# EAGLE library part 741-110 (library con-wago_741)
Serie 741, Durchführungsklemmenleiste 2 Lötstifte/Pol / Series 741, Feedthrough terminal strip 2 solder pins/pole Polzahl / Pole No.: 10 Rastermaß / Pitch: 5 - 5 mm Bemessungsspannung / Rated Voltage: 320 V Nennstrom / Nominal Current: 16 A Leiterquerschnitt / Conductor Size: 0.08 - 2.5 mm2 Anschlusstechnik / Connection Technology: CAGE CLAMP® Lötstiftlänge: / Solder Pin Length: 4 mm Leitereinführung (zur Platine) / Conductor entry angle (to PCB): 0 ° Farbe / Color: grau / gray Stand: 01.01.2014. Die jeweils aktuellen Daten zu diesem Artikel finden Sie in unserem Produktkatalog, den Sie unter www.wago.com einsehen können. As of: 01/01/2014. Please find the newest data for this article in our product catalogue, which can be viewed under www.wago.com.
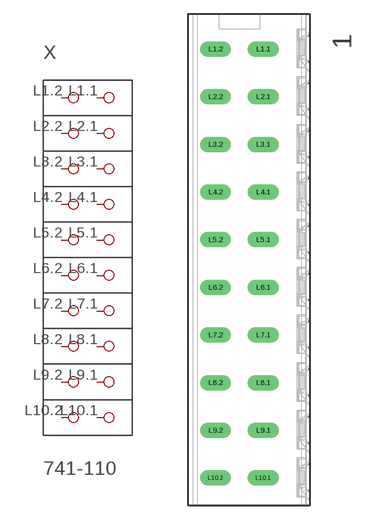
[diagram p7: symbol with the pads of P-741-110; footprint P-741-110]

Designator prefix X

## 741-110  [P-741-110]
L1.1  P1.1
L1.2  P1.2
L2.1  P2.1
L2.2  P2.2
L3.1  P3.1
L3.2  P3.2
L4.1  P4.1
L4.2  P4.2
L5.1  P5.1
L5.2  P5.2
L6.1  P6.1
L6.2  P6.2
L7.1  P7.1
L7.2  P7.2
L8.1  P8.1
L8.2  P8.2
L9.1  P9.1
L9.2  P9.2
L10.1  P10.1
L10.2  P10.2

## Footprint P-741-110 (pad centres in mm)
drill 1.1 long: L1.1 1.5,22.1; L1.2 -3.5,22.1; L2.1 1.5,17.1; L2.2 -3.5,17.1; L3.1 1.5,12.1; L3.2 -3.5,12.1; L4.1 1.5,7.1; L4.2 -3.5,7.1; L5.1 1.5,2.1; L5.2 -3.5,2.1; L6.1 1.5,-2.9; L6.2 -3.5,-2.9; L7.1 1.5,-7.9; L7.2 -3.5,-7.9; L8.1 1.5,-12.9; L8.2 -3.5,-12.9; L9.1 1.5,-17.9; L9.2 -3.5,-17.9; L10.1 1.5,-22.9; L10.2 -3.5,-22.9